# EAGLE library part MICS-SMD36 (library con-lumberg1)
CONNECTOR
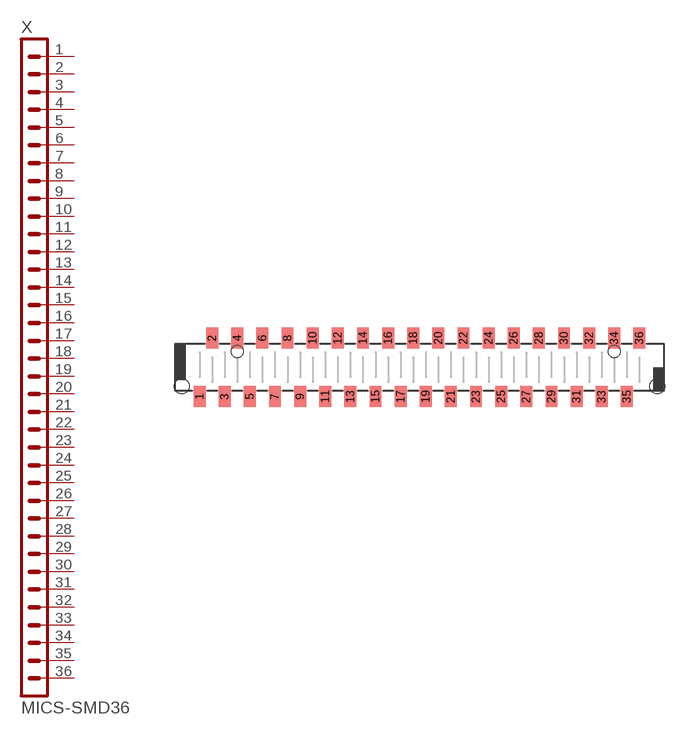
[diagram p19: symbol with the pads of MICSMD36; footprint MICSMD36]

Designator prefix X

## MICS-SMD36 (OC_FARNELL: unknown; OC_NEWARK: unknown)  [MICSMD36]
1  1  pas
2  2  pas
3  3  pas
4  4  pas
5  5  pas
6  6  pas
7  7  pas
8  8  pas
9  9  pas
10  10  pas
11  11  pas
12  12  pas
13  13  pas
14  14  pas
15  15  pas
16  16  pas
17  17  pas
18  18  pas
19  19  pas
20  20  pas
21  21  pas
22  22  pas
23  23  pas
24  24  pas
25  25  pas
26  26  pas
27  27  pas
28  28  pas
29  29  pas
30  30  pas
31  31  pas
32  32  pas
33  33  pas
34  34  pas
35  35  pas
36  36  pas

## Footprint MICSMD36 (pad centres in mm)
CONNECTOR
smd 1.2 x 2.1: 1 -22.225,-2.959; 2 -20.955,2.959; 3 -19.685,-2.959; 4 -18.415,2.959; 5 -17.145,-2.959; 6 -15.875,2.959; 7 -14.605,-2.959; 8 -13.335,2.959; 9 -12.065,-2.959; 10 -10.795,2.959; 11 -9.525,-2.959; 12 -8.255,2.959; 13 -6.985,-2.959; 14 -5.715,2.959; 15 -4.445,-2.959; 16 -3.175,2.959; 17 -1.905,-2.959; 18 -0.635,2.959; 19 0.635,-2.959; 20 1.905,2.959; 21 3.175,-2.959; 22 4.445,2.959; 23 5.715,-2.959; 24 6.985,2.959; 25 8.255,-2.959; 26 9.525,2.959; 27 10.795,-2.959; 28 12.065,2.959; 29 13.335,-2.959; 30 14.605,2.959; 31 15.875,-2.959; 32 17.145,2.959; 33 18.415,-2.959; 34 19.685,2.959; 35 20.955,-2.959; 36 22.225,2.959
hole 1.5 at 24.025,-1.912
hole 1.5 at -24.025,-1.912
hole 1.2 at -18.415,1.6
hole 1.2 at 19.685,1.6